# EAGLE library part ATSAMD11C14 (library homemade-hardware)
ATSAMD11C14A <https://www.digikey.com/product-detail/en/microchip-technology/ATSAMD11C14A-SSNT/ATSAMD11C14A-SSNTCT-ND/5956608>: Native USB M0 (arduino core <https://github.com/mattairtech/ArduinoCore-samd>)
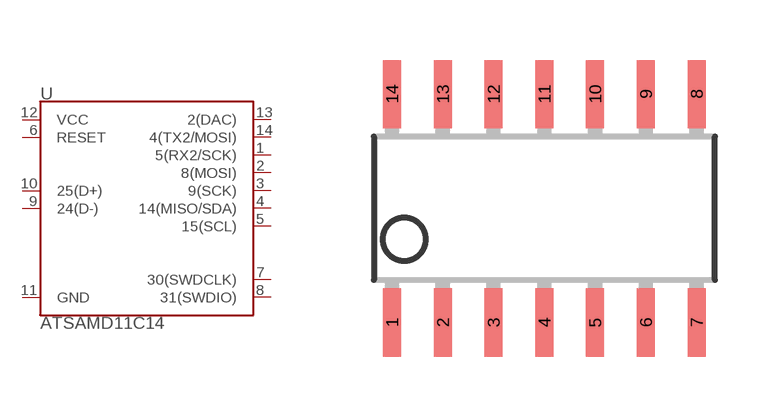
[diagram p21: symbol with the pads of SOIC14; footprint SOIC14]

Designator prefix U

## ATSAMD11C14-  [SOIC14]
1  5(RX2/SCK)
2  8(MOSI)
3  9(SCK)
4  14(MISO/SDA)
5  15(SCL)
6  RESET
7  30(SWDCLK)
8  31(SWDIO)
9  24(D-)
10  25(D+)
11  GND
12  VCC
13  2(DAC)
14  4(TX2/MOSI)

## Footprint SOIC14 (pad centres in mm)
Small Outline Package
smd 0.45 x 1.708: 1 -3.81,-2.854; 2 -2.54,-2.854; 3 -1.27,-2.854; 4 0,-2.854; 5 1.27,-2.854; 6 2.54,-2.854; 7 3.81,-2.854; 8 3.81,2.854; 9 2.54,2.854; 10 1.27,2.854; 11 0,2.854; 12 -1.27,2.854; 13 -2.54,2.854; 14 -3.81,2.854